# Altium footprint library smd_inductancies.PcbLib: 25 footprints (part 2 of 2)
Each footprint in its own frame and in the unit in brackets; x right, y up, seen from the top. Pads: shape width x height; smd on the part's side, far side on the other; paste and mask are expansions set on the pad; w line width, h text height; cw(c..) or ccw(c..) is an arc to the next point about the centre after c.
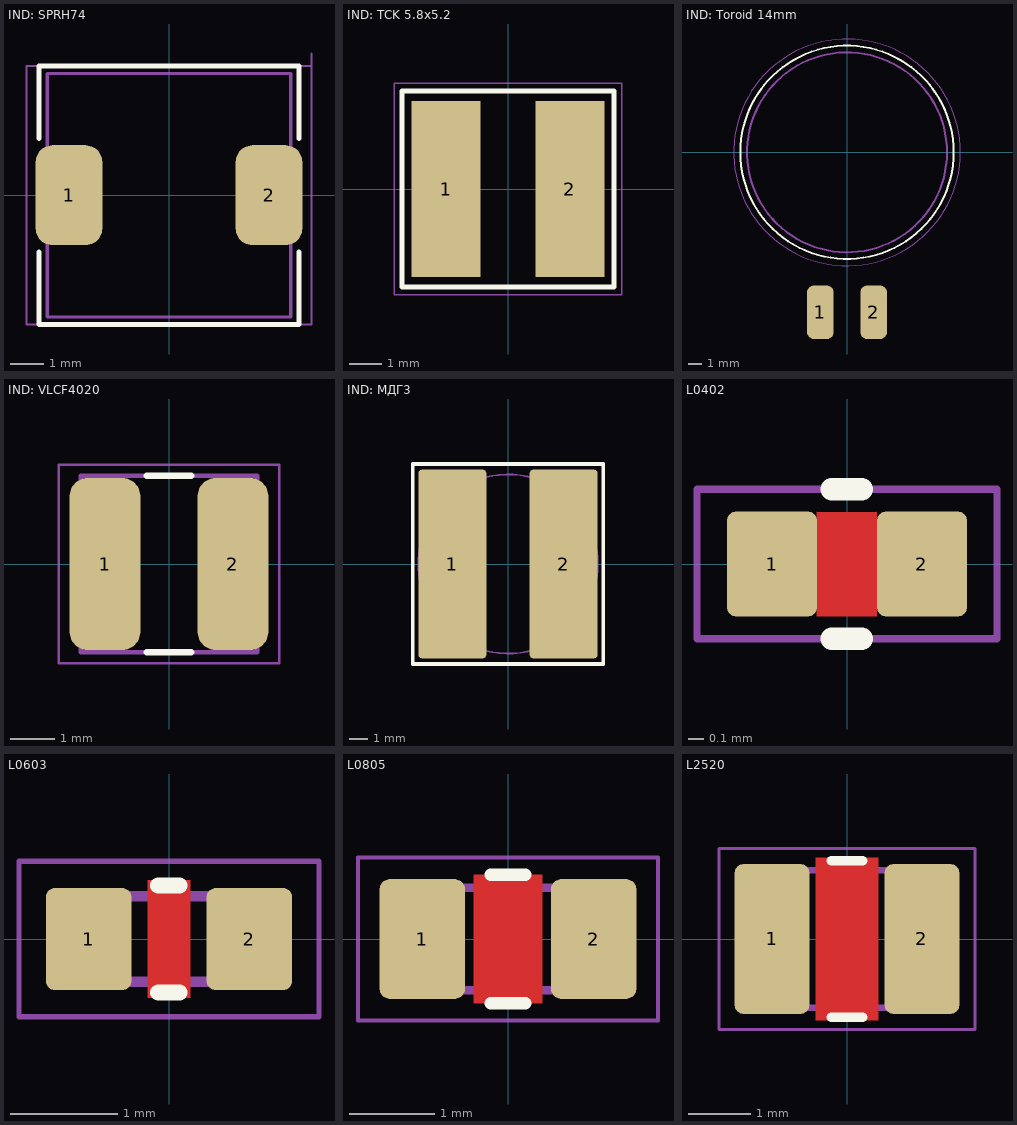
[diagram p1: the footprints below, top view; thin cyan lines are the x and y axes]

## IND: SPRH74 [mm]
pads (2):
  rrect50% 2x3 smd: 1(-3,0) 2(3,0)
Top Overlay:
  lines w0.15: -3.9,-1.7 -3.9,-3.875 3.9,-3.875 3.9,-1.7 ; -3.9,1.7 -3.9,3.875 3.9,3.875 3.9,1.7
Top Assembly:
  lines w0.1: -3.65,-3.65 3.65,-3.65 3.65,3.65 -3.65,3.65 -3.65,-3.65
  text ".Designator" at -4.998,-0.333 h1
Top Courtyard (Mech15):
  lines w0.05: 4.275,3.875 -4.275,3.875 -4.275,-3.875 4.275,-3.875 4.275,4.25
3D body "CDRN74.stp": height 4.39, standoff -0.11, extent -3.65,-3.65 3.65,3.65

## IND: TCK 5.8x5.2 [mm]
pads (2):
  rect 2.15x5.5 smd: 1(-1.925,0) 2(1.925,0)
Top Overlay:
  lines w0.15: -3.3,-3.05 -3.3,3.05 3.3,3.05 3.3,-3.05 -3.3,-3.05
Top Assembly:
  lines w0.1: -3.3,-3.05 3.3,-3.05 3.3,3.05 -3.3,3.05 -3.3,-3.05
  text ".Designator" at -4.998,-0.333 h1
Top Courtyard (Mech15):
  lines w0.05: -3.55,-3.3 -3.55,3.3 3.55,3.3 3.55,-3.3 -3.55,-3.3

## IND: Toroid 14mm [mm]
pads (2):
  rrect50% 2x4 smd: 1(-2,-12) 2(2,-12)
Top Overlay:
  circle w0.15: c0,0 r8
Top Assembly:
  circle w0.15: c0,0 r7.5
  text ".Designator" at -9.997,-0.666 h2
Top Courtyard (Mech15):
  circle w0.05: c0,0 r8.5
3D body: height 7, standoff 0, extent -7.5,-7.5 7.5,7.5

## IND: VLCF4020 [mm]
height 2
pads (2):
  rrect50% 1.6x3.9 smd: 1(-1.45,0) 2(1.45,0)
Top Overlay:
  lines w0.15: -0.5,-2 0.5,-2 ; -0.5,2 0.5,2
Top Assembly:
  lines w0.1: -2,-2 -2,2 2,2 2,-2 -2,-2
  text ".Designator" at -4.998,-0.333 h1
Top Courtyard (Mech15):
  lines w0.05: -2.5,-2.25 2.5,-2.25 2.5,2.25 -2.5,2.25 -2.5,-2.25
3D body "VLCF4020.step": height 2, standoff 0, extent -2.05,-2 2.05,2

## IND: МДГ3 [mm]
pads (2):
  rrect10% 3.6x10 smd: 1(-2.95,0) 2(2.95,0)
Top Overlay:
  lines w0.2: -5.05,-5.3 5.05,-5.3 5.05,5.3 -5.05,5.3 -5.05,-5.3
Top Assembly:
  circle w0.1: c0,0 r4.75
  text ".Designator" at -4.998,-0.333 h1
Top Courtyard (Mech15):
  lines w0.1: -5.1,-5.35 -5.1,5.35 5.1,5.35 5.1,-5.35 -5.1,-5.35

## L0402 [mm]
pads (2):
  rrect20% 0.6x0.7 smd: 1(-0.5,0) 2(0.5,0)
Top Layer:
  pour cut-out: 0.2,-0.348 0.2,0.348 0,0.346 -0.2,0.348 -0.2,-0.348
Top Overlay:
  lines w0.15: -0.1,-0.5 0.1,-0.5 ; -0.1,0.5 0.1,0.5
Top Assembly:
  lines w0.1: -0.5,-0.25 0.5,-0.25 0.5,0.25 -0.5,0.25 -0.5,-0.25
  text ".Designator" at -4.998,-0.333 h1
Top Courtyard (Mech15):
  lines w0.05: -1,-0.5 1,-0.5 1,0.5 -1,0.5 -1,-0.5
3D body "Ceramic_Capacitor_0402_h20mil.step": height 0.52, standoff 0.01, extent -0.508,-0.254 0.508,0.254

## L0603 [mm]
pads (2):
  rrect20% 0.8x0.95 smd: 1(-0.75,0) 2(0.75,0)
Top Layer:
  pour cut-out: 0.2,-0.55 0.2,0.55 -0.2,0.55 -0.2,-0.55
Top Overlay:
  lines w0.15: -0.1,-0.5 0.1,-0.5 ; -0.1,0.5 0.1,0.5
Top Assembly:
  lines w0.1: -0.8,-0.4 0.8,-0.4 0.8,0.4 -0.8,0.4 -0.8,-0.4
  text ".Designator" at -4.998,-0.333 h1
Top Courtyard (Mech15):
  lines w0.05: -1.4,-0.725 1.4,-0.725 1.4,0.725 -1.4,0.725 -1.4,-0.725
3D body "Chip2PinSM127P600-8N.step": height 0.8, standoff 0, extent -0.8,-0.4 0.8,0.4

## L0805 [mm]
pads (2):
  rrect25% 1x1.4 smd: 1(-1,0) 2(1,0)
Top Layer:
  pour cut-out: 0.4,-0.75 0.4,0.75 -0.4,0.75 -0.4,-0.75
Top Overlay:
  lines w0.15: -0.2,-0.75 0.2,-0.75 ; -0.2,0.75 0.2,0.75
Top Assembly:
  lines w0.1: -0.949,-0.6 1.05,-0.6 1.05,0.6 -0.949,0.6 -0.949,-0.6
  text ".Designator" at -4.998,-0.333 h1
Top Courtyard (Mech15):
  lines w0.05: -1.75,-0.95 1.75,-0.95 1.75,0.95 -1.75,0.95 -1.75,-0.95
3D body "User Library-FB_2012-1.STEP": height 0.85, standoff 0, extent -1,-0.625 1,0.625

## L2520 [mm] "2.5mm?2.0mm Metal Alloy Inductors"
height 1
pads (2):
  rrect25% 1.2x2.4 smd: 1(-1.2,0) 2(1.2,0)
Top Layer:
  pour cut-out: -0.5,1.3 -0.5,-1.3 0.5,-1.3 0.5,1.3
Top Overlay:
  lines w0.15: -0.25,-1.25 0.25,-1.25 ; -0.25,1.25 0.25,1.25
Top Assembly:
  lines w0.1: -1.3,-1.1 -1.3,1.1 1.3,1.1 1.3,-1.1 -1.3,-1.1
  text ".Designator" at -4.998,-0.333 h1
Top Courtyard (Mech15):
  lines w0.05: -2.05,-1.45 -2.05,1.45 2.05,1.45 2.05,-1.45 -2.05,-1.45
3D body "User Library-Chip Inductor.step": height 2, standoff 0, extent -1.25,-1.1 1.25,1.1